# EAGLE library part LM25061_DGS_10 (library shit)
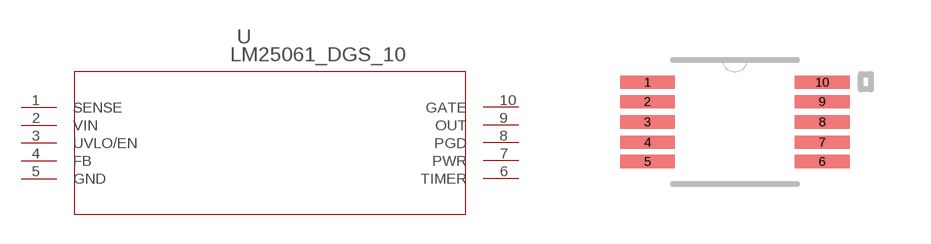
[diagram p2: symbol with the pads of MUB10A; footprint MUB10A]

Designator prefix -

## LM25061_DGS_10 (MANUFACTURER_PART_NUMBER: lm25061pmm-1nopb; VENDOR: National)  [MUB10A]
1  SENSE  in
2  VIN  pwr
3  UVLO/EN  in
4  FB  in
5  GND  pwr
6  TIMER  in
7  PWR  in
8  PGD  pas
9  OUT  pwr
10  GATE  out

## Footprint MUB10A (pad centres in mm)
smd 1.372 x 0.33: 1 -2.184,0.991; 2 -2.184,0.508; 3 -2.184,0; 4 -2.184,-0.508; 5 -2.184,-0.991; 6 2.184,-0.991; 7 2.184,-0.508; 8 2.184,0; 9 2.184,0.508; 10 2.184,0.991